# Altium footprint library PcbLib1.PcbLib: 98 footprints (part 1 of 7)
Each footprint in its own frame and in the unit in brackets; x right, y up, seen from the top. Pads: shape width x height; smd on the part's side, far side on the other; paste and mask are expansions set on the pad; w line width, h text height; cw(c..) or ccw(c..) is an arc to the next point about the centre after c.
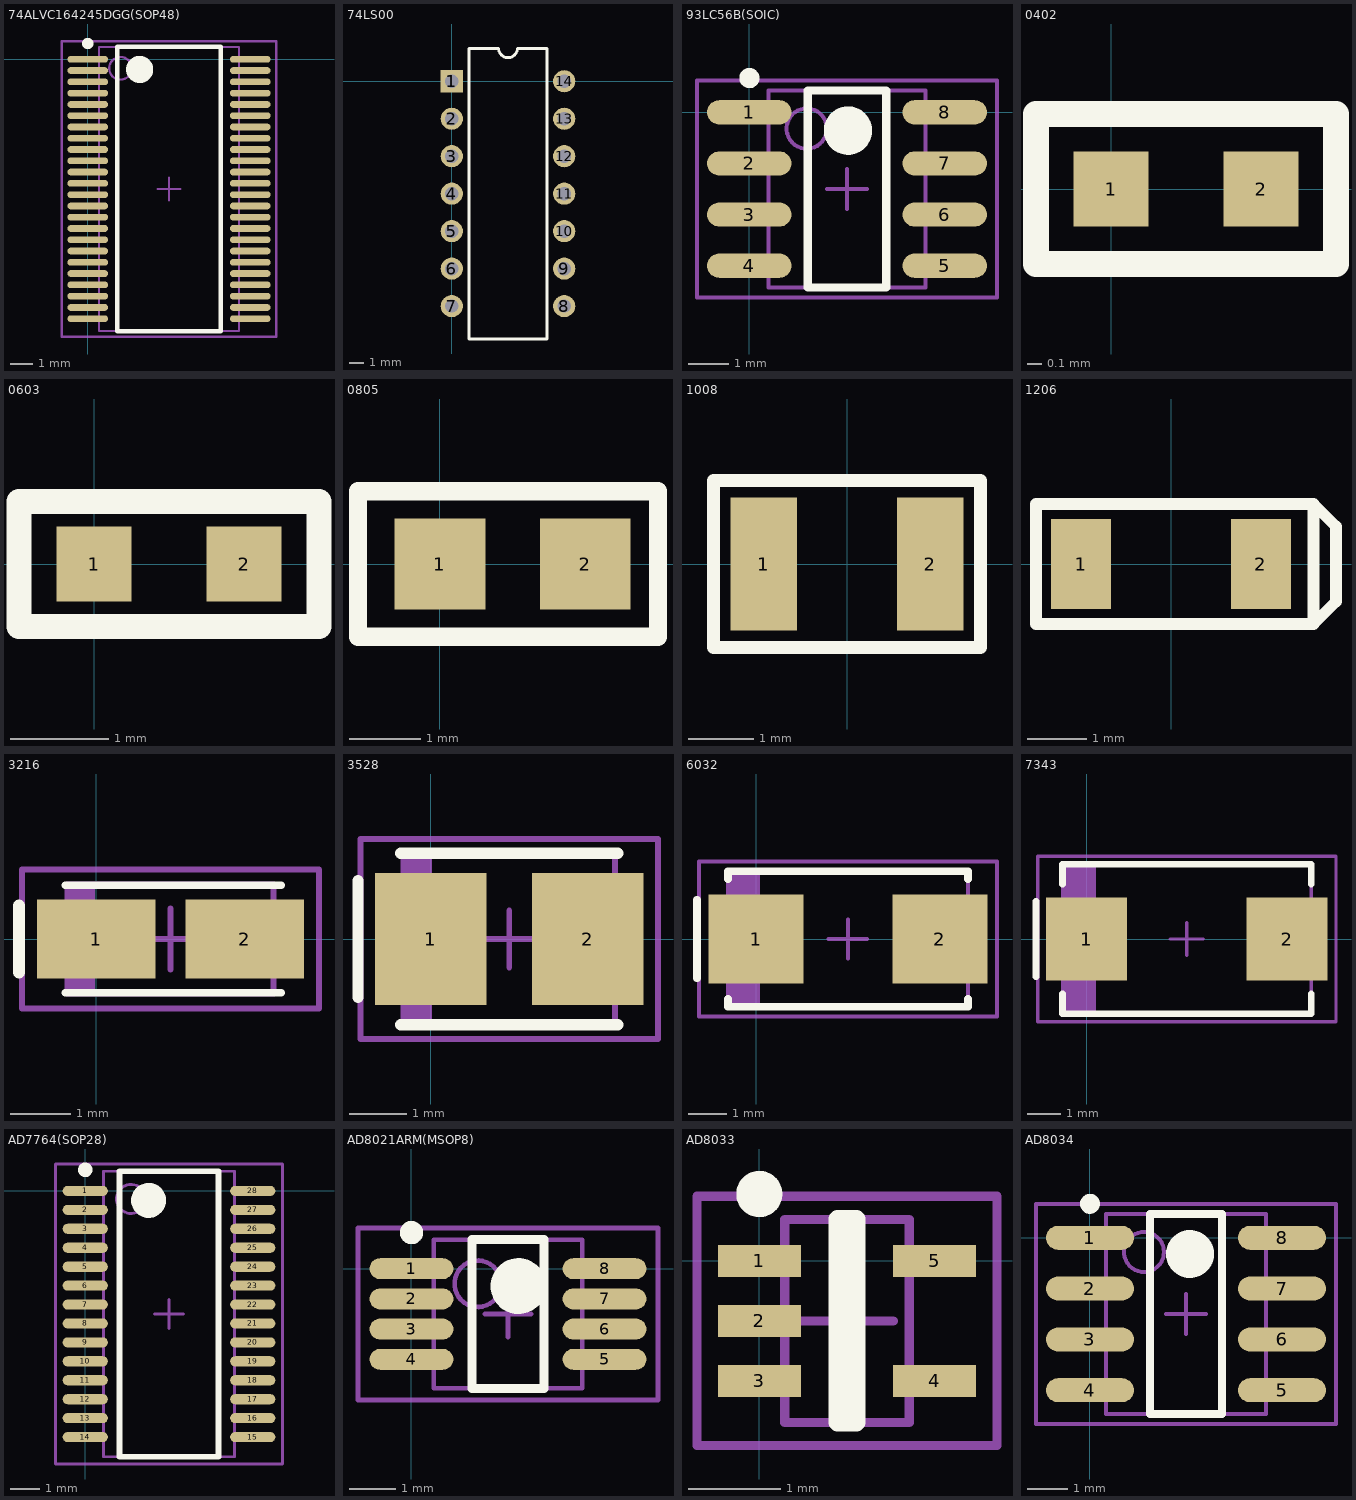
[diagram p0: the footprints below, top view; thin cyan lines are the x and y axes]

## 74ALVC164245DGG(SOP48) [mm] "SSOP, 48-Leads, Body 12.6x6.2mm (max), Pitch 0.50mm, IPC Medium Density"
height 2.65
pads (48):
  oval 1.8x0.3 smd: 1(0,0) 2(0,-0.5) 3(0,-1) 4(0,-1.5) 5(0,-2) 6(0,-2.5) 7(0,-3) 8(0,-3.5) 9(0,-4) 10(0,-4.5) 11(0,-5) 12(0,-5.5) 13(0,-6) 14(0,-6.5) 15(0,-7) 16(0,-7.5) 17(0,-8) 18(0,-8.5) 19(0,-9) 20(0,-9.5) 21(0,-10) 22(0,-10.5) 23(0,-11) 24(0,-11.5) 25(7.2,-11.5) 26(7.2,-11) 27(7.2,-10.5) 28(7.2,-10) 29(7.2,-9.5) 30(7.2,-9) 31(7.2,-8.5) 32(7.2,-8) 33(7.2,-7.5) 34(7.2,-7) 35(7.2,-6.5) 36(7.2,-6) 37(7.2,-5.5) 38(7.2,-5) 39(7.2,-4.5) 40(7.2,-4) 41(7.2,-3.5) 42(7.2,-3) 43(7.2,-2.5) 44(7.2,-2) 45(7.2,-1.5) 46(7.2,-1) 47(7.2,-0.5) 48(7.2,0)
Top Overlay:
  circle w0.6: c2.3,-0.45 r0.3
  circle w0.25: c0,0.7 r0.125
  lines w0.2: 1.3,-12.05 5.9,-12.05 5.9,0.55 1.3,0.55 1.3,-12.05
Mechanical 13:
  circle w0.1: c1.45,-0.4 r0.5
  lines w0.1: 0.5,-12.05 6.7,-12.05 6.7,0.55 0.5,0.55 0.5,-12.05
Mechanical 15:
  lines w0.1: 3.1,-5.75 4.1,-5.75 ; 3.6,-6.25 3.6,-5.25 ; -1.15,-12.3 8.35,-12.3 8.35,0.8 -1.15,0.8 -1.15,-12.3
3D body: height 2.65, standoff 0.1, extent 0.5,-12.05 6.7,0.55

## 74LS00 [mm]
pads (14):
  rect 1.5x1.5 hole 0.9: 1(0,0)
  round 1.5 hole 0.9: 2(0,-2.54) 3(0,-5.08) 4(0,-7.62) 5(0,-10.16) 6(0,-12.7) 7(0,-15.24) 8(7.62,-15.24) 9(7.62,-12.7) 10(7.62,-10.16) 11(7.62,-7.62) 12(7.62,-5.08) 13(7.62,-2.54) 14(7.62,0)
Top Overlay:
  lines w0.2: 1.16,-17.47 1.16,2.23 3.175,2.23 ccw(c3.81,2.23) 4.445,2.23 6.46,2.23 6.46,-17.47 1.16,-17.47

## 93LC56B(SOIC) [mm] "SOIC, 8-Leads, Body 4.9x3.9mm (max), Pitch 1.27mm, IPC Medium Density"
height 1.75
pads (8):
  oval 2.1x0.6 smd: 1(0,0) 2(0,-1.27) 3(0,-2.54) 4(0,-3.81) 5(4.85,-3.81) 6(4.85,-2.54) 7(4.85,-1.27) 8(4.85,0)
Top Overlay:
  circle w0.6: c2.45,-0.455 r0.3
  circle w0.25: c0,0.85 r0.125
  lines w0.2: 1.45,-4.355 3.4,-4.355 3.4,0.545 1.45,0.545 1.45,-4.355
Mechanical 13:
  circle w0.1: c1.425,-0.405 r0.5
  lines w0.1: 0.475,-4.355 4.375,-4.355 4.375,0.545 0.475,0.545 0.475,-4.355
Mechanical 15:
  lines w0.1: 1.925,-1.905 2.925,-1.905 ; 2.425,-2.405 2.425,-1.405 ; -1.3,-4.605 6.15,-4.605 6.15,0.795 -1.3,0.795 -1.3,-4.605
3D body: height 1.75, standoff 0.1, extent 0.475,-4.355 4.375,0.545

## 0402 [mil]
pads (2):
  rect 20x20 smd: 1(0,0) 2(40,0)
Top Overlay:
  lines w7: -20,-20 60,-20 60,20 -20,20 -20,-20

## 0603 [mil]
pads (2):
  rect 30x30 smd: 1(0,0) 2(60,0)
Top Overlay:
  lines w10: -30,-25 -30,0 -30,25 90,25 90,-25 -30,-25

## 0805 [mil]
pads (2):
  rect 50x50 smd: 1(0,0) 2(80,0)
Top Overlay:
  lines w10: -45,-40 120,-40 120,40 -45,40 -45,5 -45,-40

## 1008 [mil]
pads (2):
  rect 40x80 smd: 1(-50,0) 2(50,0)
Top Overlay:
  lines w7.87: -80,-50 -80,50 80,50 80,-50 -80,-50

## 1206 [mil]
pads (2):
  rect 40x60 smd: 1(-60,0) 2(60,0)
Top Overlay:
  lines w7.87: 95,-40 95,40 ; 95,-40 110,-25 110,25 95,40 ; 95,-40 -90,-40 -90,40 95,40

## 3216 [mm] "Molded Capacitor, 2-Leads, Body 3.2x1.6mm, IPC Medium Density"
height 1.8
pads (2):
  rect 1.95x1.3 smd: 1(0,0) 2(2.45,0)
Top Overlay:
  lines w0.127: -0.508,-0.889 3.048,-0.889 ; -0.508,0.889 3.048,0.889
  lines w0.2: -1.275,-0.55 -1.275,0.55
Mechanical 13:
  rectangle: -0.475,-0.9 -0.018,0.9
  lines w0.1: -0.475,-0.9 2.925,-0.9 2.925,0.9 -0.475,0.9 -0.475,-0.9
Mechanical 15:
  lines w0.1: 0.725,0 1.725,0 ; 1.225,-0.5 1.225,0.5 ; -1.225,-1.15 3.675,-1.15 3.675,1.15 -1.225,1.15 -1.225,-1.15
3D body: height 1.8, standoff 0, extent -0.475,-0.9 2.925,0.9

## 3528 [mm] "Molded Capacitor, 2-Leads, Body 3.5x2.9mm, IPC Medium Density"
height 2.1
pads (2):
  rect 1.95x2.3 smd: 1(0,0) 2(2.75,0)
Top Overlay:
  lines w0.2: -1.27,-1.016 -1.27,1.016 ; -0.525,-1.5 3.275,-1.5 ; -0.525,1.5 3.275,1.5
Mechanical 13:
  rectangle: -0.475,-1.5 0.023,1.5
  lines w0.1: -0.475,-1.5 3.225,-1.5 3.225,1.5 -0.475,1.5 -0.475,-1.5
Mechanical 15:
  lines w0.1: 0.875,0 1.875,0 ; 1.375,-0.5 1.375,0.5 ; -1.225,-1.75 3.975,-1.75 3.975,1.75 -1.225,1.75 -1.225,-1.75
3D body: height 2.1, standoff 0, extent -0.475,-1.5 3.225,1.5

## 6032 [mm] "Molded Capacitor, 2-Leads, Body 6.0x3.3mm, IPC Medium Density"
height 2.8
pads (2):
  rect 2.45x2.3 smd: 1(0,0) 2(4.75,0)
Top Overlay:
  lines w0.2: -1.524,-1.016 -1.524,1.016 ; -0.725,-1.55 -0.725,-1.75 5.475,-1.75 5.475,-1.55 ; -0.725,1.55 -0.725,1.75 5.475,1.75 5.475,1.55
Mechanical 13:
  rectangle: -0.725,-1.7 0.109,1.7
  lines w0.1: -0.725,-1.7 -0.725,1.7 5.475,1.7 5.475,-1.7 -0.725,-1.7
Mechanical 15:
  lines w0.1: 1.875,0 2.875,0 ; 2.375,-0.5 2.375,0.5 ; -1.475,-2 -1.475,2 6.225,2 6.225,-2 -1.475,-2
3D body: height 2.8, standoff 0, extent -0.725,-1.7 5.475,1.7

## 7343 [mm] "Molded Capacitor, 2-Leads, Body 7.3x4.3mm, IPC Medium Density"
height 4.3
pads (2):
  rect 2.45x2.5 smd: 1(0,0) 2(6.05,0)
Top Overlay:
  lines w0.2: -1.524,-1.143 -1.524,1.143 ; -0.725,-1.65 -0.725,-2.25 6.775,-2.25 6.775,-1.65 ; -0.725,1.65 -0.725,2.25 6.775,2.25 6.775,1.65
Mechanical 13:
  rectangle: -0.725,-2.25 0.284,2.25
  lines w0.1: -0.725,-2.25 6.775,-2.25 6.775,2.25 -0.725,2.25 -0.725,-2.25
Mechanical 15:
  lines w0.1: 2.525,0 3.525,0 ; 3.025,-0.5 3.025,0.5 ; -1.475,-2.5 7.525,-2.5 7.525,2.5 -1.475,2.5 -1.475,-2.5
3D body: height 4.3, standoff 0, extent -0.725,-2.25 6.775,2.25

## AD7764(SOP28) [mm] "TSOP, 28-Leads, Body 9.8x4.5mm (max), Pitch 0.65mm, IPC Medium Density"
height 1.2
pads (28):
  oval 1.55x0.35 smd: 1(0,0) 2(0,-0.65) 3(0,-1.3) 4(0,-1.95) 5(0,-2.6) 6(0,-3.25) 7(0,-3.9) 8(0,-4.55) 9(0,-5.2) 10(0,-5.85) 11(0,-6.5) 12(0,-7.15) 13(0,-7.8) 14(0,-8.45) 15(5.75,-8.45) 16(5.75,-7.8) 17(5.75,-7.15) 18(5.75,-6.5) 19(5.75,-5.85) 20(5.75,-5.2) 21(5.75,-4.55) 22(5.75,-3.9) 23(5.75,-3.25) 24(5.75,-2.6) 25(5.75,-1.95) 26(5.75,-1.3) 27(5.75,-0.65) 28(5.75,0)
Top Overlay:
  circle w0.6: c2.175,-0.325 r0.3
  circle w0.25: c0,0.725 r0.125
  lines w0.2: 1.175,-9.125 4.575,-9.125 4.575,0.675 1.175,0.675 1.175,-9.125
Mechanical 13:
  circle w0.1: c1.575,-0.275 r0.5
  lines w0.1: 0.625,-9.125 5.125,-9.125 5.125,0.675 0.625,0.675 0.625,-9.125
Mechanical 15:
  lines w0.1: 2.375,-4.225 3.375,-4.225 ; 2.875,-4.725 2.875,-3.725 ; -1.025,-9.375 6.775,-9.375 6.775,0.925 -1.025,0.925 -1.025,-9.375
3D body: height 1.2, standoff 0.05, extent 0.625,-9.125 5.125,0.675

## AD8021ARM(MSOP8) [mm] "TSOP, 8-Leads, Body 3.2x3.2mm (max), Pitch 0.65mm, IPC Medium Density"
height 1.1
pads (8):
  oval 1.8x0.45 smd: 1(0,0) 2(0,-0.65) 3(0,-1.3) 4(0,-1.95) 5(4.15,-1.95) 6(4.15,-1.3) 7(4.15,-0.65) 8(4.15,0)
Top Overlay:
  circle w0.25: c0,0.775 r0.125
  circle w0.6: c2.3,-0.375 r0.3
  lines w0.2: 1.3,-2.575 1.3,0.625 2.85,0.625 2.85,-2.575 1.3,-2.575
Mechanical 13:
  circle w0.1: c1.425,-0.325 r0.5
  lines w0.1: 0.475,-2.575 0.475,0.625 3.675,0.625 3.675,-2.575 0.475,-2.575
Mechanical 15:
  lines w0.1: 1.575,-0.975 2.575,-0.975 ; 2.075,-1.475 2.075,-0.475 ; -1.15,-2.825 -1.15,0.875 5.3,0.875 5.3,-2.825 -1.15,-2.825
3D body: height 1.1, standoff 0.15, extent 0.475,-2.575 3.675,0.625

## AD8033 [mm] "SOT23, 5-Leads, Body 2.2x2.4mm (max), Pitch 0.65mm, IPC Medium Density"
height 1.1
pads (5):
  rect 0.9x0.35 smd: 1(0,0) 2(0,-0.65) 3(0,-1.3) 4(1.9,-1.3) 5(1.9,0)
Top Overlay:
  circle w0.25: c0,0.725 r0.125
  lines w0.2: 0.85,-1.75 1.05,-1.75 1.05,0.45 0.85,0.45 0.85,-1.75
Mechanical 13:
  lines w0.1: 0.275,-1.75 0.275,0.45 1.625,0.45 1.625,-1.75 0.275,-1.75
Mechanical 15:
  lines w0.1: 0.45,-0.65 1.45,-0.65 ; 0.95,-1.15 0.95,-0.15 ; -0.675,-2 -0.675,0.7 2.575,0.7 2.575,-2 -0.675,-2
3D body: height 1.1, standoff 0.1, extent 0.275,-1.75 1.625,0.45

## AD8034 [mm] "SOIC, 8-Leads, Body 5.0x4.0mm (max), Pitch 1.27mm, IPC Medium Density"
height 1.75
pads (8):
  oval 2.2x0.6 smd: 1(0,0) 2(0,-1.27) 3(0,-2.54) 4(0,-3.81) 5(4.8,-3.81) 6(4.8,-2.54) 7(4.8,-1.27) 8(4.8,0)
Top Overlay:
  circle w0.6: c2.5,-0.405 r0.3
  circle w0.25: c0,0.85 r0.125
  lines w0.2: 1.5,-4.405 3.3,-4.405 3.3,0.595 1.5,0.595 1.5,-4.405
Mechanical 13:
  circle w0.1: c1.35,-0.355 r0.5
  lines w0.1: 0.4,-4.405 4.4,-4.405 4.4,0.595 0.4,0.595 0.4,-4.405
Mechanical 15:
  lines w0.1: 1.9,-1.905 2.9,-1.905 ; 2.4,-2.405 2.4,-1.405 ; -1.35,-4.655 6.15,-4.655 6.15,0.845 -1.35,0.845 -1.35,-4.655
3D body: height 1.75, standoff 0.1, extent 0.4,-4.405 4.4,0.595